# Altium schematic symbol library M3-PCB-96-H-5x5.5.Schlib: 1 symbol
Pins are listed as number, name and electrical type; pins without a type are passive.

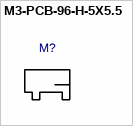
[diagram p0: symbol M3-PCB-96-H-5X5.5]

## M3-PCB-96-H-5X5.5
designator M?
pins: 1